# Altium footprint library Battery.PcbLib: 44 footprints (part 1 of 3)
Each footprint in its own frame and in the unit in brackets; x right, y up, seen from the top. Pads: shape width x height; smd on the part's side, far side on the other; paste and mask are expansions set on the pad; w line width, h text height; cw(c..) or ccw(c..) is an arc to the next point about the centre after c.
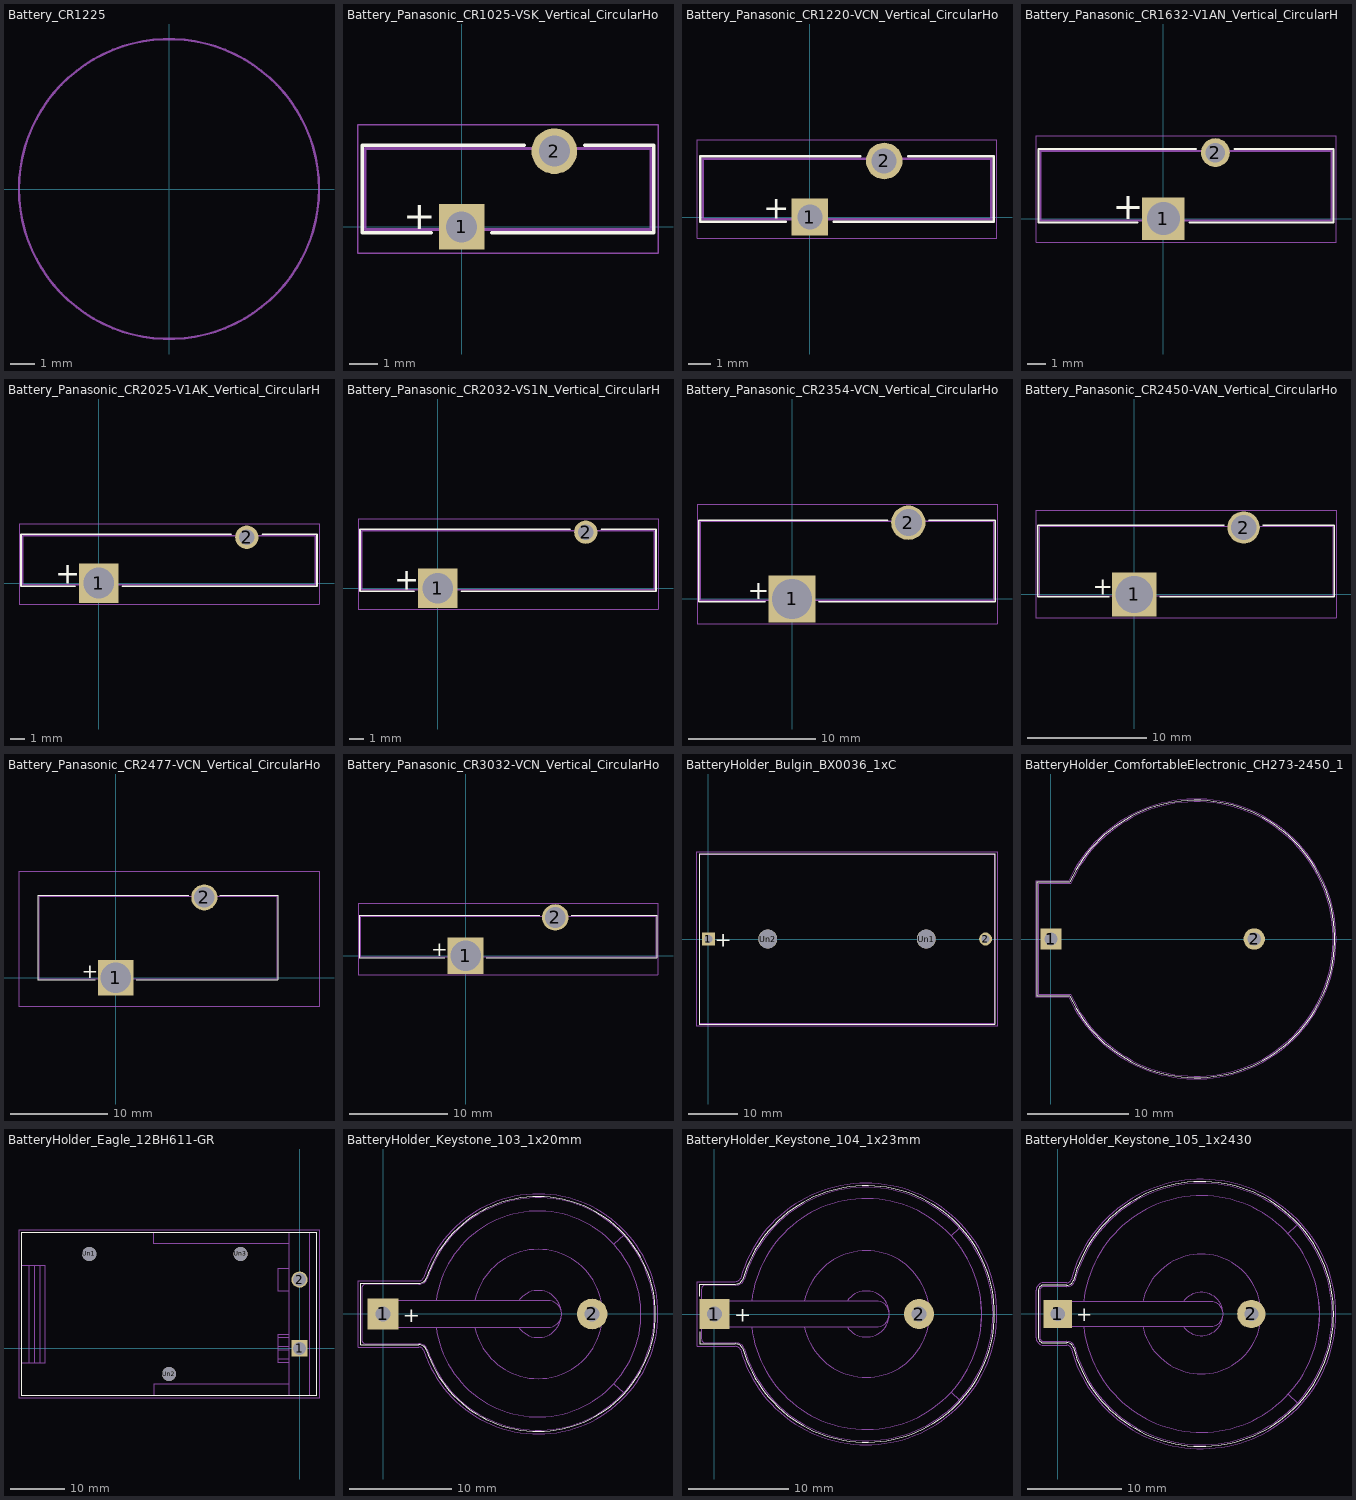
[diagram p0: the footprints below, top view; thin cyan lines are the x and y axes]

## Battery_CR1225 [mm]
F.Fab:
  circle w0.1: c0,0 r6.25

## Battery_Panasonic_CR1025-VSK_Vertical_CircularHoles [mm]
pads (2):
  rect 1.6x1.6 hole 1.09: 1(0,0)
  round 1.6 hole 1.09: 2(3.25,2.65)
F.SilkS:
  lines w0.12: -1.06,-0.21 -3.485,-0.21 -3.485,2.86 2.19,2.86 ; 1.06,-0.21 6.735,-0.21 6.735,2.86 4.31,2.86
  text "+" at -2.038,-0.078 h1
F.CrtYd:
  lines w0.05: -3.63,-0.93 6.88,-0.93 6.88,3.58 -3.63,3.58 -3.63,-0.93
F.Fab:
  lines w0.1: -3.375,-0.1 -3.375,2.75 6.625,2.75 6.625,-0.1 -3.375,-0.1
  text "'.Designator'" at -2.422,0.46 h1

## Battery_Panasonic_CR1220-VCN_Vertical_CircularHoles [mm]
pads (2):
  rect 1.6x1.6 hole 1.09: 1(0,0)
  round 1.6 hole 1.09: 2(3.25,2.45)
F.SilkS:
  lines w0.12: -4.785,-0.21 -4.785,2.66 2.19,2.66 ; -4.78,-0.21 -1.06,-0.21 ; 1.06,-0.21 8.035,-0.21 8.035,2.66 4.31,2.66
  text "+" at -2.038,-0.078 h1
F.CrtYd:
  lines w0.05: -4.93,-0.93 -4.93,3.38 8.18,3.38 8.18,-0.93 -4.93,-0.93
F.Fab:
  lines w0.1: -4.675,-0.1 -4.675,2.55 7.925,2.55 7.925,-0.1 -4.675,-0.1
  text "'.Designator'" at -2.422,0.36 h1

## Battery_Panasonic_CR1632-V1AN_Vertical_CircularHoles [mm]
pads (2):
  rect 2.35x2.35 hole 1.82: 1(0,0)
  round 1.6 hole 1.09: 2(2.875,3.65)
F.SilkS:
  lines w0.12: -1.43,-0.21 -6.91,-0.21 -6.91,3.86 1.81,3.86 ; 1.44,-0.21 9.41,-0.21 9.41,3.86 3.94,3.86
  text "+" at -2.803,-0.043 h1.5
F.CrtYd:
  lines w0.05: -7.05,-1.3 -7.05,4.58 9.55,4.58 9.55,-1.3 -7.05,-1.3
F.Fab:
  lines w0.1: -6.8,-0.1 -6.8,3.75 9.3,3.75 9.3,-0.1 -6.8,-0.1
  text "'.Designator'" at -2.797,0.96 h1

## Battery_Panasonic_CR2025-V1AK_Vertical_CircularHoles [mm]
pads (2):
  rect 2.7x2.7 hole 2.12: 1(0,0)
  round 1.6 hole 1.09: 2(10.17,3.15)
F.SilkS:
  lines w0.12: -1.61,-0.21 -5.335,-0.21 -5.335,3.36 9.11,3.36 ; 1.61,-0.21 14.985,-0.21 14.985,3.36 11.23,3.36
  text "+" at -2.993,-0.043 h1.5
F.CrtYd:
  lines w0.05: -5.48,-1.45 15.13,-1.45 15.13,4.08 -5.48,4.08 -5.48,-1.45
F.Fab:
  lines w0.1: -5.225,-0.1 -5.225,3.25 14.875,3.25 14.875,-0.1 -5.225,-0.1
  text "'.Designator'" at 0.778,1.16 h1

## Battery_Panasonic_CR2032-VS1N_Vertical_CircularHoles [mm]
pads (2):
  rect 2.7x2.7 hole 2.12: 1(0,0)
  round 1.6 hole 1.09: 2(10.17,3.85)
F.SilkS:
  lines w0.12: -1.61,-0.21 -5.335,-0.21 -5.335,4.06 9.11,4.06 ; 1.61,-0.21 14.985,-0.21 14.985,4.06 11.23,4.06
  text "+" at -2.993,-0.093 h1.5
F.CrtYd:
  lines w0.05: -5.48,-1.45 15.13,-1.45 15.13,4.78 -5.48,4.78 -5.48,-1.45
F.Fab:
  lines w0.1: -5.225,-0.1 -5.225,3.95 14.875,3.95 14.875,-0.1 -5.225,-0.1
  text "'.Designator'" at 0.778,1.16 h1

## Battery_Panasonic_CR2354-VCN_Vertical_CircularHoles [mm]
pads (2):
  rect 3.7x3.7 hole 3.12: 1(0,0)
  round 2.7 hole 2.12: 2(9.15,6)
F.SilkS:
  lines w0.12: -2.11,-0.21 -7.335,-0.21 -7.335,6.21 7.54,6.21 ; 2.11,-0.21 15.992,-0.21 ; 10.76,6.21 15.985,6.21 15.985,-0.21
  text "+" at -3.493,-0.043 h1.5
F.CrtYd:
  lines w0.05: -7.48,-1.95 16.13,-1.95 16.13,7.45 -7.48,7.45 -7.48,-1.95
F.Fab:
  lines w0.1: -7.225,-0.1 -7.225,6.1 15.875,6.1 15.875,-0.1 -7.225,-0.1
  text "'.Designator'" at 0.278,2.16 h1

## Battery_Panasonic_CR2450-VAN_Vertical_CircularHoles [mm]
pads (2):
  rect 3.7x3.7 hole 3.12: 1(0,0)
  round 2.7 hole 2.12: 2(9.15,5.6)
F.SilkS:
  lines w0.12: -2.11,-0.21 -8.085,-0.21 -8.085,5.81 7.54,5.81 ; 2.11,-0.21 16.735,-0.21 16.735,5.81 10.76,5.81
  text "+" at -3.493,-0.043 h1.5
F.CrtYd:
  lines w0.05: -8.23,-1.95 16.88,-1.95 16.88,7.05 -8.23,7.05 -8.23,-1.95
F.Fab:
  lines w0.1: -7.975,-0.1 -7.975,5.7 16.625,5.7 16.625,-0.1 -7.975,-0.1
  text "'.Designator'" at 0.278,1.96 h1

## Battery_Panasonic_CR2477-VCN_Vertical_CircularHoles [mm]
pads (2):
  rect 3.7x3.7 hole 3.12: 1(0,0)
  round 2.7 hole 2.12: 2(9.15,8.3)
F.SilkS:
  lines w0.12: -2.11,-0.21 -8.085,-0.21 -8.085,8.51 7.54,8.51 ; 2.11,-0.21 16.735,-0.21 16.735,8.51 10.76,8.51
  text "+" at -3.493,-0.043 h1.5
F.CrtYd:
  lines w0.05: -10,-3 -10,11 21,11 21,-3 -10,-3
F.Fab:
  lines w0.1: -7.975,-0.1 -7.975,8.4 16.625,8.4 16.625,-0.1 -7.975,-0.1
  text "'.Designator'" at 0.278,3.31 h1

## Battery_Panasonic_CR3032-VCN_Vertical_CircularHoles [mm]
pads (2):
  rect 3.7x3.7 hole 3.12: 1(0,0)
  round 2.7 hole 2.12: 2(9.15,3.9)
F.SilkS:
  lines w0.12: -2.11,-0.21 -10.835,-0.21 -10.835,4.11 7.54,4.11 ; 2.11,-0.21 19.485,-0.21 19.485,4.11 10.76,4.11
  text "+" at -3.493,-0.043 h1.5
F.CrtYd:
  lines w0.05: -10.98,-1.95 -10.98,5.35 19.63,5.35 19.63,-1.95 -10.98,-1.95
F.Fab:
  lines w0.1: -10.725,-0.1 -10.725,4 19.375,4 19.375,-0.1 -10.725,-0.1
  text "'.Designator'" at 0.278,1.11 h1

## BatteryHolder_Bulgin_BX0036_1xC [mm]
pads (4):
  rect 2.6x2.6 hole 1.6: 1(0,0)
  round 2.6 hole 1.6: 2(55.6,0)
  round 3.8 hole 3.8: Un1(43.7,0) Un2(11.9,0)
F.SilkS:
  lines w0.12: -1.81,-17.06 -1.81,17.06 57.41,17.06 57.41,-17.06 -1.81,-17.06
  text "+" at 1.265,-1.535 h3
F.CrtYd:
  lines w0.05: -2.3,-17.5 57.9,-17.5 57.9,17.5 -2.3,17.5 -2.3,-17.5
F.Fab:
  lines w0.1: -1.75,-17 57.35,-17 57.35,17 -1.75,17 -1.75,-17
  text "'.Designator'" at 23.803,0.21 h1

## BatteryHolder_ComfortableElectronic_CH273-2450_1x2450 [mm]
pads (2):
  rect 2.1x2.1 hole 1.3: 1(0,0)
  round 2.1 hole 1.3: 2(20,0)
F.SilkS:
  lines w0.12: -1.33,-5.61 1.845,-5.61 ccw(c14.28,0) 1.845,5.61 -1.33,5.61 -1.33,-5.61
F.CrtYd:
  lines w0.05: -1.47,-5.75 -1.47,5.75 1.77,5.75 cw(c14.28,0) 1.77,-5.75 -1.47,-5.75
F.Fab:
  lines w0.1: -1.22,-5.5 -1.22,5.5 1.95,5.5 cw(c14.28,0) 1.95,-5.5 -1.22,-5.5
  text "'.Designator'" at 10.003,-0.79 h1

## BatteryHolder_Eagle_12BH611-GR [mm]
pads (5):
  rect 3x3 hole 2.4: 1(0,0)
  round 3 hole 2.4: 2(0,12.7)
  round 2.6 hole 2.6: Un1(-38.9,17.45) Un2(-24.15,-4.75) Un3(-10.9,17.45)
F.SilkS:
  lines w0.12: -51.4,-8.75 3.1,-8.75 3.1,21.45 -51.4,21.45 -51.4,-8.75
F.CrtYd:
  lines w0.05: -51.9,-9.25 -51.9,21.95 3.6,21.95 3.6,-9.25 -51.9,-9.25
F.Fab:
  lines w0.1: -51.4,-2.65 -47,-2.65 -47,15.35 -51.4,15.35 ; -50,-2.65 -50,15.35 ; -49,-2.65 -49,15.35 ; -48,-2.65 -48,15.35 ; -27,-8.75 -27,-6.65 -2,-6.65 ; -27,21.45 -27,19.35 -2,19.35 ; -4,-2.05 -2,-2.05 ; -4,-0.25 -2,-0.25 ; -4,0.25 -2,0.25 ; -4,2.05 -2,2.05 ; -2,-8.75 -2,21.45 ; -2,-2.55 -4,-2.55 -4,2.55 -2,2.55 ; -2,10.65 -4,10.65 -4,14.75 -2,14.75 ; 1.85,-8.75 1.85,21.45 ; -51.4,-8.75 3.1,-8.75 3.1,21.45 -51.4,21.45 -51.4,-8.75
  text "-" at -8.735,12.25 h3
  text "+" at -8.735,-1.735 h3
  text "'.Designator'" at -28.177,5.51 h1

## BatteryHolder_Keystone_103_1x20mm [mm]
pads (2):
  rect 3x3 hole 1.5: 1(0,0)
  round 3 hole 1.5: 2(20.49,0)
F.SilkS:
  lines w0.12: -2.2,-3 3.5,-3 cw(c3.5,-3.812) 4.25,-3.5 ccw(c15.2,0) 26.696,0 ccw(c15.2,0) 4.25,3.5 cw(c3.5,3.812) 3.5,3 -2.2,3 -2.2,-3
  text "+" at 1.957,-0.793 h1.5
F.CrtYd:
  lines w0.05: -2.45,-3.25 -2.45,3.25 3.5,3.25 ccw(c3.5,3.797) 4.01,3.6 cw(c15.198,0.004) 26.95,0 cw(c15.198,-0.004) 4.01,-3.6 ccw(c3.5,-3.797) 3.5,-3.25 -2.45,-3.25
F.Fab:
  lines w0.1: 5.2,-1.3 ccw(c15.2,0) 25.2,1.3 ; 5.2,1.3 cw(c15.2,0) 25.2,-1.3 ; 9,-1.3 ccw(c15.198,-0.003) 21.53,0 ccw(c15.198,0.003) 9,1.3 ; 13.3,-1.3 ccw(c15.2,0) 17.495,0.176 ; 13.3,1.3 cw(c15.2,0) 17.495,-0.176 ; 22.631,6.858 23.571,7.722 ; 22.657,-6.883 23.571,-7.722 ; -2.1,-2.5 -2.1,2.5 cw(c-1.7,2.5) -1.7,2.9 3.5,2.9 ccw(c3.5,3.802) 4.35,3.5 cw(c15.2,0) 26.6,0 cw(c15.2,0) 4.35,-3.5 ccw(c3.5,-3.802) 3.5,-2.9 -1.7,-2.9 cw(c-1.7,-2.5) -2.1,-2.5 ; 0,-1.3 16.2,-1.3 ccw(c16.2,0) 16.2,1.3 0,1.3 0,-1.3
  text "'.Designator'" at 3.353,1.36 h1

## BatteryHolder_Keystone_104_1x23mm [mm]
pads (2):
  rect 3x3 hole 1.5: 1(0,0)
  round 3 hole 1.5: 2(20.49,0)
F.SilkS:
  lines w0.12: -1.45,-1.8 -1.45,-3 2.1,-3 cw(c2.1,-3.812) 2.85,-3.5 ccw(c15.2,0) 28.036,0 ccw(c15.2,0) 2.85,3.5 cw(c2.1,3.812) 2.1,3 -1.45,3 -1.45,1.8
  text "+" at 1.957,-0.793 h1.5
F.CrtYd:
  lines w0.05: -1.75,-3.25 -1.75,3.25 2.1,3.25 ccw(c2.1,3.797) 2.61,3.6 cw(c15.197,-0.005) 28.29,0 cw(c15.197,0.005) 2.61,-3.6 ccw(c2.1,-3.797) 2.1,-3.25 -1.75,-3.25
F.Fab:
  lines w0.1: 3.72,-1.3 ccw(c15.2,0) 26.68,1.3 ; 3.72,1.3 cw(c15.2,0) 26.68,-1.3 ; 9,-1.3 ccw(c15.198,-0.003) 21.53,0 ccw(c15.198,0.003) 9,1.3 ; 13.3,-1.3 ccw(c15.2,0) 17.495,0.176 ; 13.3,1.3 cw(c15.2,0) 17.495,-0.176 ; 23.7,-7.85 24.5,-8.61 ; 23.7,7.85 24.5,8.61 ; 27.892,-0.002 ccw(c15.2,0) 3,3.5 cw(c2.15,3.802) 2.15,2.9 -0.9,2.9 ccw(c-0.9,2.5) -1.3,2.5 -1.3,-2.5 ccw(c-0.9,-2.5) -0.9,-2.9 2.15,-2.9 cw(c2.15,-3.802) 3,-3.5 ccw(c15.2,0) 27.892,0.002 ; 0,-1.3 16.2,-1.3 ccw(c16.2,0) 16.2,1.3 0,1.3 0,-1.3
  text "'.Designator'" at 2.403,1.56 h1

## BatteryHolder_Keystone_105_1x2430 [mm]
pads (2):
  rect 3x3 hole 1.5: 1(0,0)
  round 3 hole 1.5: 2(20.49,0)
F.SilkS:
  lines w0.12: -2.05,-2.5 -2.05,2.5 cw(c-1.5,2.5) -1.5,3.05 0.95,3.05 ccw(c0.95,3.806) 1.65,3.52 cw(c15.2,0) 29.2,0 cw(c15.2,0) 1.65,-3.52 ccw(c0.95,-3.806) 0.95,-3.05 -1.5,-3.05 cw(c-1.5,-2.5) -2.05,-2.5
  text "+" at 1.957,-0.793 h1.5
F.CrtYd:
  lines w0.05: -2.3,-2.5 -2.3,2.5 cw(c-1.5,2.5) -1.5,3.3 0.95,3.3 ccw(c0.95,3.803) 1.41,3.6 cw(c15.199,0.004) 29.45,0 cw(c15.199,-0.004) 1.41,-3.6 ccw(c0.95,-3.803) 0.95,-3.3 -1.5,-3.3 cw(c-1.5,-2.5) -2.3,-2.5
F.Fab:
  lines w0.1: 2.75,-1.3 ccw(c15.2,0) 27.65,1.3 ; 2.75,1.3 cw(c15.2,0) 27.65,-1.3 ; 9,-1.3 ccw(c15.198,-0.003) 21.53,0 ccw(c15.198,0.003) 9,1.3 ; 13.3,-1.3 ccw(c15.2,0) 17.495,0.176 ; 13.3,1.3 cw(c15.2,0) 17.495,-0.176 ; 24.384,8.547 25.299,9.399 ; 24.409,-8.496 25.375,-9.398 ; -1.9,-2.5 -1.9,2.5 cw(c-1.5,2.5) -1.5,2.9 0.95,2.9 ccw(c0.95,3.802) 1.8,3.5 cw(c15.2,0) 29.05,0 cw(c15.2,0) 1.8,-3.5 ccw(c0.95,-3.802) 0.95,-2.9 -1.5,-2.9 cw(c-1.5,-2.5) -1.9,-2.5 ; 0,-1.3 0,1.3 16.2,1.3 cw(c16.2,0) 16.2,-1.3 0,-1.3
  text "'.Designator'" at 2.353,2.36 h1